# EAGLE library part 1X22 (library magzor-connectors)
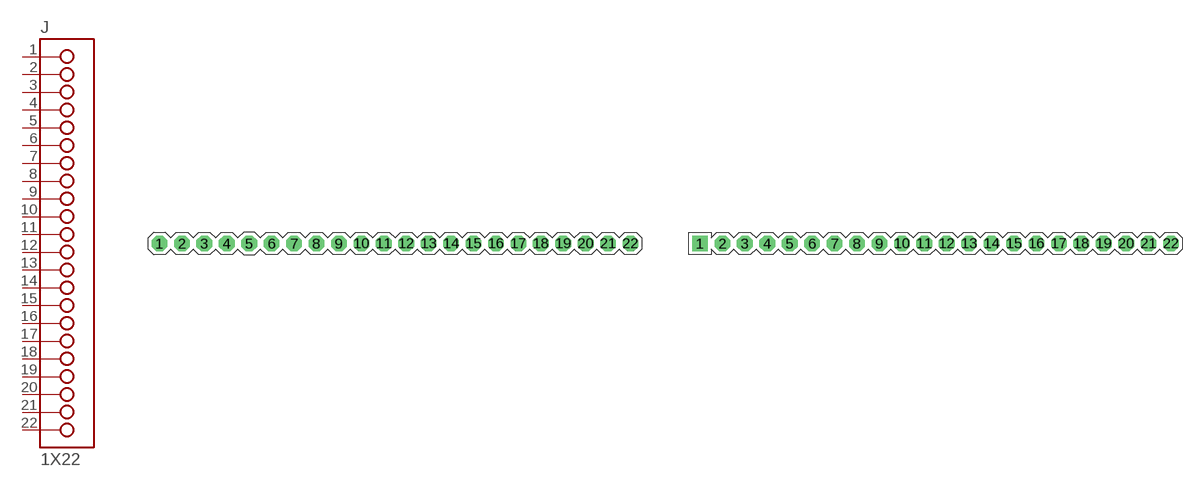
[diagram p4: symbol with the pads of P0.1IN-1X22; footprints P0.1IN-1X22, P0.1IN-1X22-1SQ]

Designator prefix J

## 1X22-0.1IN  [P0.1IN-1X22]
1  1
2  2
3  3
4  4
5  5
6  6
7  7
8  8
9  9
10  10
11  11
12  12
13  13
14  14
15  15
16  16
17  17
18  18
19  19
20  20
21  21
22  22

## 1X22-0.1IN-1SQ  [P0.1IN-1X22-1SQ]
Pads as for P0.1IN-1X22

## Footprint P0.1IN-1X22 (pad centres in mm)
drill 0.965 pad 1.778 octagon: 1 -26.67,0; 2 -24.13,0; 3 -21.59,0; 4 -19.05,0; 5 -16.51,0; 6 -13.97,0; 7 -11.43,0; 8 -8.89,0; 9 -6.35,0; 10 -3.81,0; 11 -1.27,0; 12 1.27,0; 13 3.81,0; 14 6.35,0; 15 8.89,0; 16 11.43,0; 17 13.97,0; 18 16.51,0; 19 19.05,0; 20 21.59,0; 21 24.13,0; 22 26.67,0

## Footprint P0.1IN-1X22-1SQ (pad centres in mm)
drill 0.965 pad 1.778 square: 1 -26.67,0
drill 0.965 pad 1.778 octagon: 2 -24.13,0; 3 -21.59,0; 4 -19.05,0; 5 -16.51,0; 6 -13.97,0; 7 -11.43,0; 8 -8.89,0; 9 -6.35,0; 10 -3.81,0; 11 -1.27,0; 12 1.27,0; 13 3.81,0; 14 6.35,0; 15 8.89,0; 16 11.43,0; 17 13.97,0; 18 16.51,0; 19 19.05,0; 20 21.59,0; 21 24.13,0; 22 26.67,0